# Altium footprint library sim_connector.PcbLib: 1 footprints
Each footprint in its own frame and in the unit in brackets; x right, y up, seen from the top. Pads: shape width x height; smd on the part's side, far side on the other; paste and mask are expansions set on the pad; w line width, h text height; cw(c..) or ccw(c..) is an arc to the next point about the centre after c.
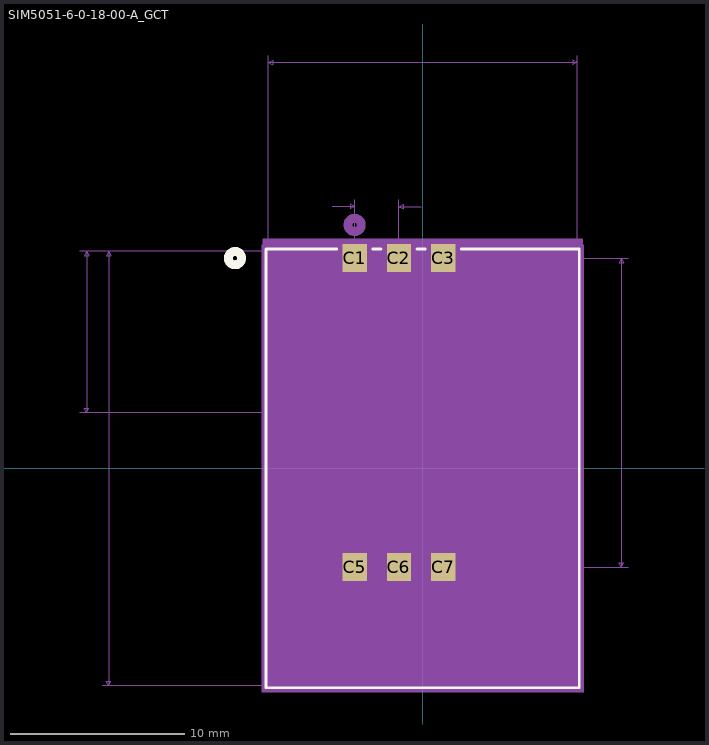
[diagram p0: the footprint, top view; thin cyan lines are the x and y axes]

## SIM5051-6-0-18-00-A_GCT [mil]
pads (6):
  rect 55x63 smd paste+0 mask+0: C1(-153.54,474.25) C2(-53.54,474.25) C3(46.46,474.25) C5(-153.54,-222.6) C6(-53.54,-222.6) C7(46.46,-222.6)
Top Overlay:
  circle w20: c-423.5,474.25 r15
  lines w6: -194.14,495 -353.5,495 -353.5,-495 353.5,-495 353.5,495 87.06,495 ; -112.94,495 -94.14,495 ; -12.94,495 5.86,495
Bottom Overlay:
  circle w20: c-423.5,474.25 r15
Mechanical 5:
  region: -363.5,505 363.5,505 363.5,-505 -363.5,-505
Mechanical 7:
  lines w1: -773.5,125.83 0,125.83 ; -773.5,490 -348.5,490 ; -723.5,-490 -348.5,-490 ; -723.5,490 -348.5,490 ; -348.5,930.75 -348.5,490 ; -203.54,590.75 -153.54,590.75 ; -153.54,-222.6 463.5,-222.6 ; -153.54,605.75 -153.54,474.25 463.5,474.25 ; -53.54,474.25 -53.54,605.75 ; -3.54,590.75 -53.54,590.75 ; 348.5,490 348.5,930.75 ; -758.5,125.83 -758.5,490 ; -758.5,125.83 -763.5,135.83 -753.5,135.83 -758.5,125.83 ; -758.5,490 -763.5,480 -753.5,480 -758.5,490 ; -708.5,-490 -708.5,490 ; -708.5,-490 -713.5,-480 -703.5,-480 -708.5,-490 ; -708.5,490 -713.5,480 -703.5,480 -708.5,490 ; -348.5,915.75 348.5,915.75 ; -348.5,915.75 -338.5,920.75 -338.5,910.75 -348.5,915.75 ; -153.54,590.75 -163.54,595.75 -163.54,585.75 -153.54,590.75 ; -53.54,590.75 -43.54,595.75 -43.54,585.75 -53.54,590.75 ; 348.5,915.75 338.5,920.75 338.5,910.75 348.5,915.75 ; 448.5,-222.6 448.5,474.25 ; 448.5,-222.6 443.5,-212.6 453.5,-212.6 448.5,-222.6 ; 448.5,474.25 443.5,464.25 453.5,464.25 448.5,474.25
  text "Default Padstyle: r140_160" at -325,-650 h50
  text "1st Mtg Padstyle: r279_203h127" at -375,-725 h50
  text "2nd Mtg Padstyle: c178h178" at -325,-800 h50
  text "3rd Mtg Padstyle: c178h178" at -325,-875 h50
  text "Left Mtg Padstyle: c152h76" at -325,-950 h50
  text "Right Mtg Padstyle: c152h76" at -337.5,-1025 h50
  text "Alt Padstyle 1: b152_229h76" at -337.5,-1100 h50
  text "Alt Padstyle 2: b229_152h76" at -337.5,-1175 h50
  text "0.1in/2.54mm" at -201.77,610.75 h25
  text "0.697in/17.704mm" at -100,935.75 h25
  text "0.697in/17.7mm" at 468.5,113.33 h25
  text "0.364in/9.25mm" at -953.5,295.41 h25
  text "0.98in/24.892mm" at -916,-12.5 h25
Mechanical 13:
  circle w20: c-153.54,549.25 r15
  lines w1: -348.5,-490 348.5,-490 348.5,490 -348.5,490 -348.5,-490
Mechanical 15:
  region: 358.5,515.75 -358.5,515.75 -358.5,-500 358.5,-500
  lines w6: -358.5,-500 -358.5,515.75 358.5,515.75 358.5,-500 -358.5,-500
3D body: height 10, standoff 0, extent 0,0 10,10